# EAGLE library part W25Q16JVSNIQ (library W25Q16JVSNIQ)
NOR Flash spiFlash, 3V, 16M-bit, 4Kb Uniform Sector Source: Datasheet <http://www.winbond.com/resource-files/w25q16jv spi revg 03222018 plus.pdf> Check availability <https://pricing.snapeda.com/parts/W25Q16JVSNIQ/Winbond%20Electronics/view-part?ref=eda>
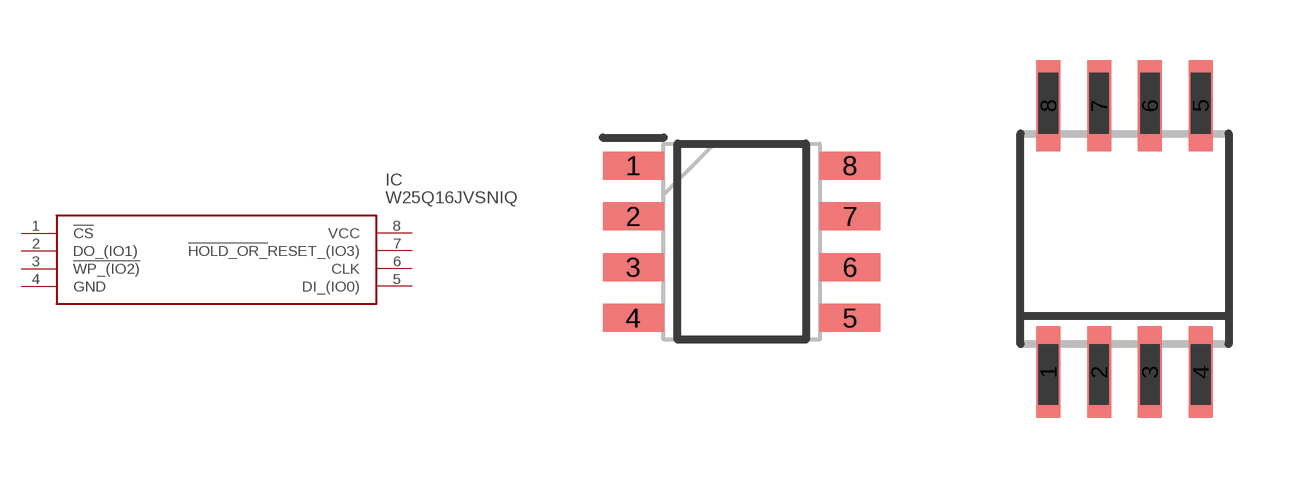
[diagram p0: symbol with the pads of SOIC127P600X175-8N; footprints SOIC127P600X175-8N, SOIC8_EIAJ_208MIL]

Designator prefix IC

## W25Q16JVSNIQ (Availability: In Stock; Description: FLASH - NOR Memory IC 16Mb (2M x 8) SPI - Quad I/O 133 MHz 8-SOIC; MF: Winbond Electronics; MP: W25Q16JVSNIQ; Package: SOIC-8 Winbond; Price: None; Purchase-URL: https://pricing.snapeda.com/search?q=W25Q16JVSNIQ&ref=eda)  [SOIC127P600X175-8N]
1  !CS
2  DO_(IO1)
3  !WP_(IO2)
4  GND
5  DI_(IO0)
6  CLK
7  !HOLD_OR_!RESET_(IO3)
8  VCC

## W25Q16JVSNIQ208MIL (Availability: In Stock; Description: FLASH - NOR Memory IC 16Mb (2M x 8) SPI - Quad I/O 133 MHz 8-SOIC; MF: Winbond Electronics; MP: W25Q16JVSNIQ; Package: SOIC-8 Winbond; Price: None; Purchase-URL: https://pricing.snapeda.com/search?q=W25Q16JVSNIQ&ref=eda)  [SOIC8_EIAJ_208MIL]
Pads as for SOIC127P600X175-8N

## Footprint SOIC127P600X175-8N (pad centres in mm)
8-Pin SOIC 150-mil (Package Code SN)
smd 1.525 x 0.7: 1 -2.712,1.905; 2 -2.712,0.635; 3 -2.712,-0.635; 4 -2.712,-1.905; 5 2.712,-1.905; 6 2.712,-0.635; 7 2.712,0.635; 8 2.712,1.905

## Footprint SOIC8_EIAJ_208MIL (pad centres in mm)
Small Outline Medium Plastic Gull Wing 208-mil body
smd 0.6 x 2.286: 1 -1.905,-3.33; 2 -0.635,-3.33; 3 0.635,-3.33; 4 1.905,-3.33; 5 1.905,3.33; 6 0.635,3.33; 7 -0.635,3.33; 8 -1.905,3.33